# EAGLE library part 3X03 (library Jordi)
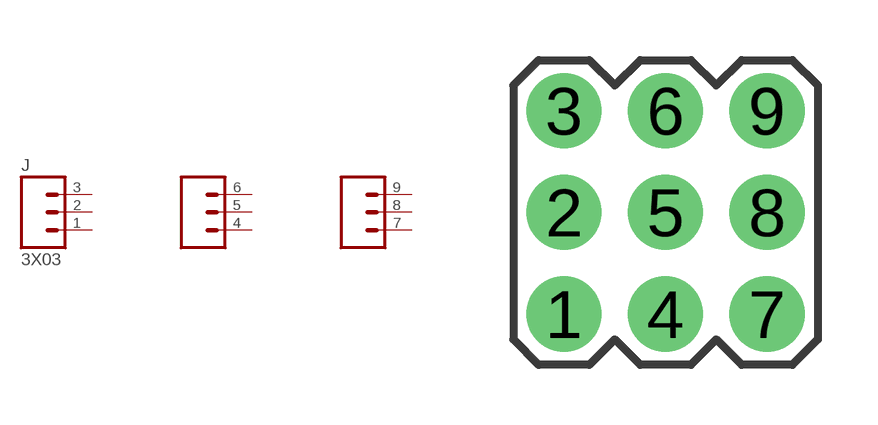
[diagram p3: symbol with the pads of M-3X03-0.1-PTH; footprint M-3X03-0.1-PTH]

Designator prefix J

## 3X03M-0.1-PTH  [M-3X03-0.1-PTH]
1  1  pas
2  2  pas
3  3  pas
4  4  pas
5  5  pas
6  6  pas
7  7  pas
8  8  pas
9  9  pas

## Footprint M-3X03-0.1-PTH (pad centres in mm)
drill 1.016 pad 1.88: 1 -2.54,-2.54; 2 -2.54,0; 3 -2.54,2.54; 4 0,-2.54; 5 0,0; 6 0,2.54; 7 2.54,-2.54; 8 2.54,0; 9 2.54,2.54